# Altium schematic symbol library STM32_Smart_1.SCHLIB: 14 symbols
Pins are listed as number, name and electrical type; pins without a type are passive.

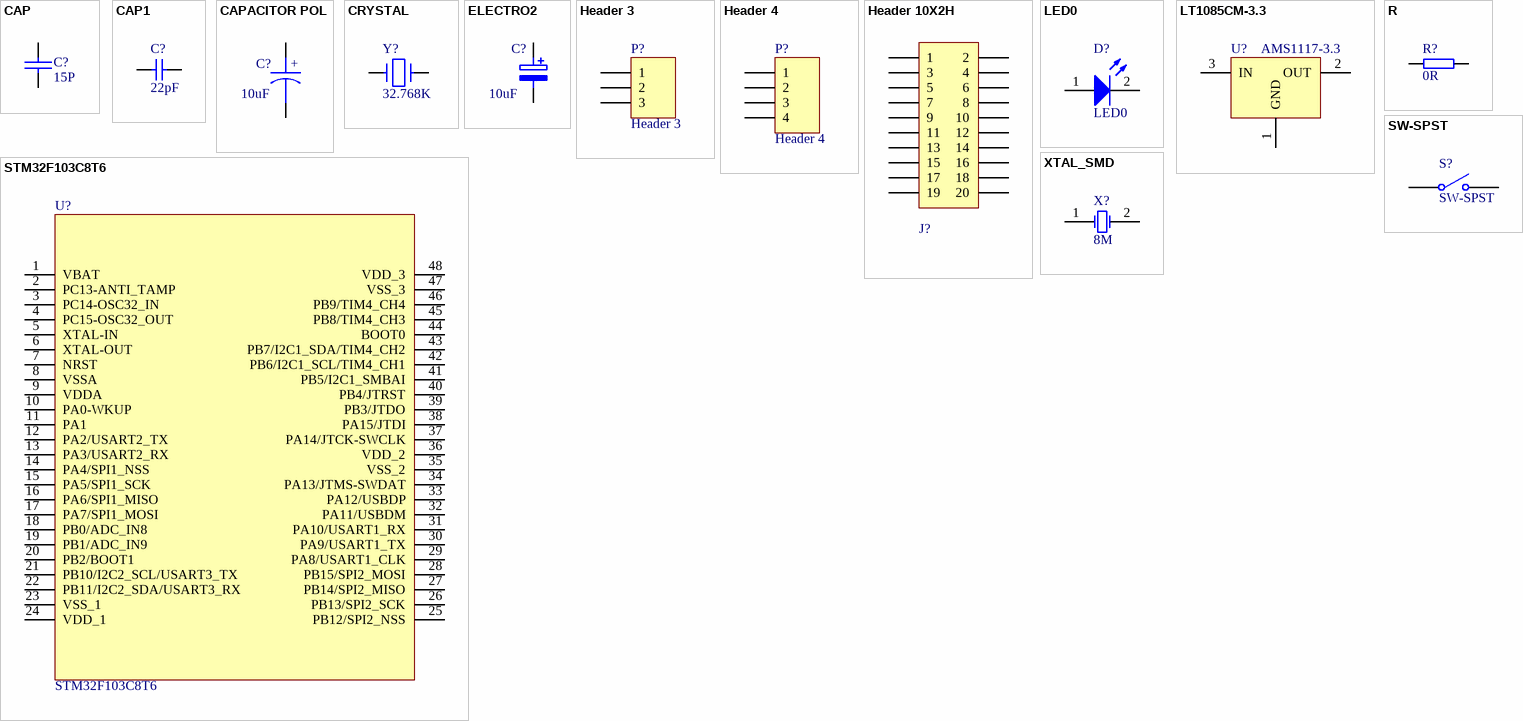
[diagram p0: symbols CAP to XTAL_SMD]

## CAP
designator C?, comment 15P
footprint RC0603
pins: 1, 2
2 alternate drawings of the same symbol

## CAP1
designator C?, comment 22pF
Capacitor; Tolerate: 50V; Value: 20pF; TOL: 2%; ERP: 0103020090; PCB_Layout: Top Layer SMC; Revision: 2012-3-28; Publisher: ZL_A0OFFICE
signal-integrity model Cap
simulation model CAP
footprint RC0603
pins: 1, 2

## CAPACITOR POL
designator C?, comment 10uF
Capacitor
footprint RC0805 (Footprint not found)
pins: 1, 2
text: +

## CRYSTAL
designator Y?, comment 32.768K
晶振
footprint JZ32768
pins: 1, 2
2 alternate drawings of the same symbol

## ELECTRO2
designator C?, comment 10uF
footprint RC0805 (Footprint not found)
pins: 1, 2
2 alternate drawings of the same symbol

## Header 3
designator P?
Header, 3-Pin; LatestRevisionDate: 17-Jul-2002; LatestRevisionNote: Re-released for DXP Platform.; Publisher: Altium Limited
footprint HDR1X3 (Connector; Header; 3 Position)
signal-integrity model Connector
pins: 1, 2, 3

## Header 4
designator P?
Header, 4-Pin; LatestRevisionDate: 17-Jul-2002; LatestRevisionNote: Re-released for DXP Platform.; Publisher: Altium Limited
footprint HDR1X4 (Connector; Header; 4 Position)
signal-integrity model Connector
pins: 1, 2, 3, 4

## Header 10X2H
designator J?
Header, 10-Pin, Dual row, Right Angle; LatestRevisionDate: 17-Jul-2002; LatestRevisionNote: Re-released for DXP Platform.; Publisher: Altium Limited
footprint JTAG20P
pins: 1, 2, 3, 4, 5, 6, 7, 8, 9, 10, 11, 12, 13, 14, 15, 16, 17, 18, 19, 20

## LED0
designator D?
Typical INFRARED GaAs LED
footprint LED0805
pins: 1 A, 2 K

## LT1085CM-3.3
designator U?, comment AMS1117-3.3
footprint SOT223
pins: 1 GND, 2 OUT, 3 IN

## R
designator R?, comment 0R
footprint RC0603
pins: 1, 2

## STM32F103C8T6
designator U?
footprint LQFP48
pins: 1 VBAT, 2 PC13-ANTI_TAMP, 3 PC14-OSC32_IN, 4 PC15-OSC32_OUT, 5 XTAL-IN, 6 XTAL-OUT, 7 NRST, 8 VSSA, 9 VDDA, 10 PA0-WKUP, 11 PA1, 12 PA2/USART2_TX, 13 PA3/USART2_RX, 14 PA4/SPI1_NSS, 15 PA5/SPI1_SCK, 16 PA6/SPI1_MISO, 17 PA7/SPI1_MOSI, 18 PB0/ADC_IN8, 19 PB1/ADC_IN9, 20 PB2/BOOT1, 21 PB10/I2C2_SCL/USART3_TX, 22 PB11/I2C2_SDA/USART3_RX, 23 VSS_1, 24 VDD_1, 25 PB12/SPI2_NSS, 26 PB13/SPI2_SCK, 27 PB14/SPI2_MISO, 28 PB15/SPI2_MOSI, 29 PA8/USART1_CLK, 30 PA9/USART1_TX, 31 PA10/USART1_RX, 32 PA11/USBDM, 33 PA12/USBDP, 34 PA13/JTMS-SWDAT, 35 VSS_2, 36 VDD_2, 37 PA14/JTCK-SWCLK, 38 PA15/JTDI, 39 PB3/JTDO, 40 PB4/JTRST, 41 PB5/I2C1_SMBAI, 42 PB6/I2C1_SCL/TIM4_CH1, 43 PB7/I2C1_SDA/TIM4_CH2, 44 BOOT0, 45 PB8/TIM4_CH3, 46 PB9/TIM4_CH4, 47 VSS_3, 48 VDD_3

## SW-SPST
designator S?
Single-Pole, Single-Throw Switch
footprint SMT-KEY
pins: 1 COMMON, 2 NO

## XTAL_SMD
designator X?, comment 8M
Crystal Oscillator; ERP: 0103040021; Value: 8MHz; TOL: ±20ppm; Tolerate: ROSON -20_+70 20pf; PCB_Layout: Top Layer SMC; Publisher: ZL_A0OFFICE; Revision: 2012-3-28
footprint SMD49S
signal-integrity model Diode
simulation model DIODE
pins: 1, 2